# EAGLE library part DRV8220_H_BRIDGE (library ELEC327 copy)
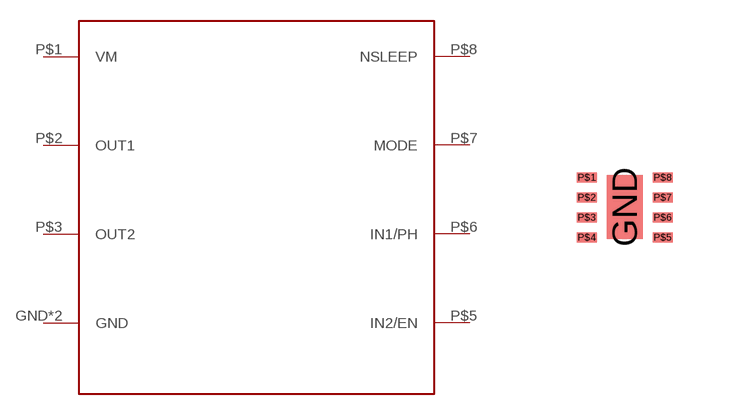
[diagram p6: symbol with the pads of DRV8220_H_BRIDGE; footprint DRV8220_H_BRIDGE]

Designator prefix -

## DRV8220_H_BRIDGE  [DRV8220_H_BRIDGE]
GND  GND  pas
P$1  VM  pas
P$2  OUT1  pas
P$3  OUT2  pas
P$4  GND  pas
P$5  IN2/EN  pas
P$6  IN1/PH  pas
P$7  MODE  pas
P$8  NSLEEP  pas

## Footprint DRV8220_H_BRIDGE (pad centres in mm)
smd 0.9 x 1.6: GND 0.95,-0.747
smd 0.5 x 0.25: P$1 0,0; P$2 0,-0.5; P$3 0,-1; P$4 0,-1.5; P$5 1.9,-1.5; P$6 1.9,-1; P$7 1.9,-0.5; P$8 1.9,0